# Altium schematic symbol library LM555CMM_NOPB.SchLib: 1 symbol
Pins are listed as number, name and electrical type; pins without a type are passive.

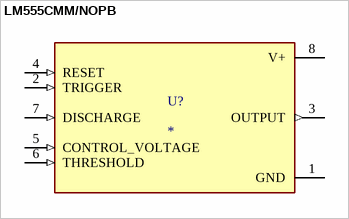
[diagram p0: symbol LM555CMM/NOPB]

## LM555CMM/NOPB
designator U?
Highly Stable 555 Timer; MF: Texas Instruments; MP: LM555CMM/NOPB; SnapEDA_Link: https://www.snapeda.com/parts/LM555CMM/NOPB/Texas+Instruments/view-part/?ref=snap; Package: VSSOP-8 Texas Instruments; Value: *; Check_prices: https://www.snapeda.com/parts/LM555CMM/NOPB/Texas+Instruments/view-part/?ref=eda
footprint SOP65P490X110-8N
pins: 1 GND (power), 2 TRIGGER (in), 3 OUTPUT (out), 4 RESET (in), 5 CONTROL_VOLTAGE (in), 6 THRESHOLD (in), 7 DISCHARGE (in), 8 V+ (power)